# Altium schematic symbol library Semiconductors.SchLib: 25 symbols
Pins are listed as number, name and electrical type; pins without a type are passive.

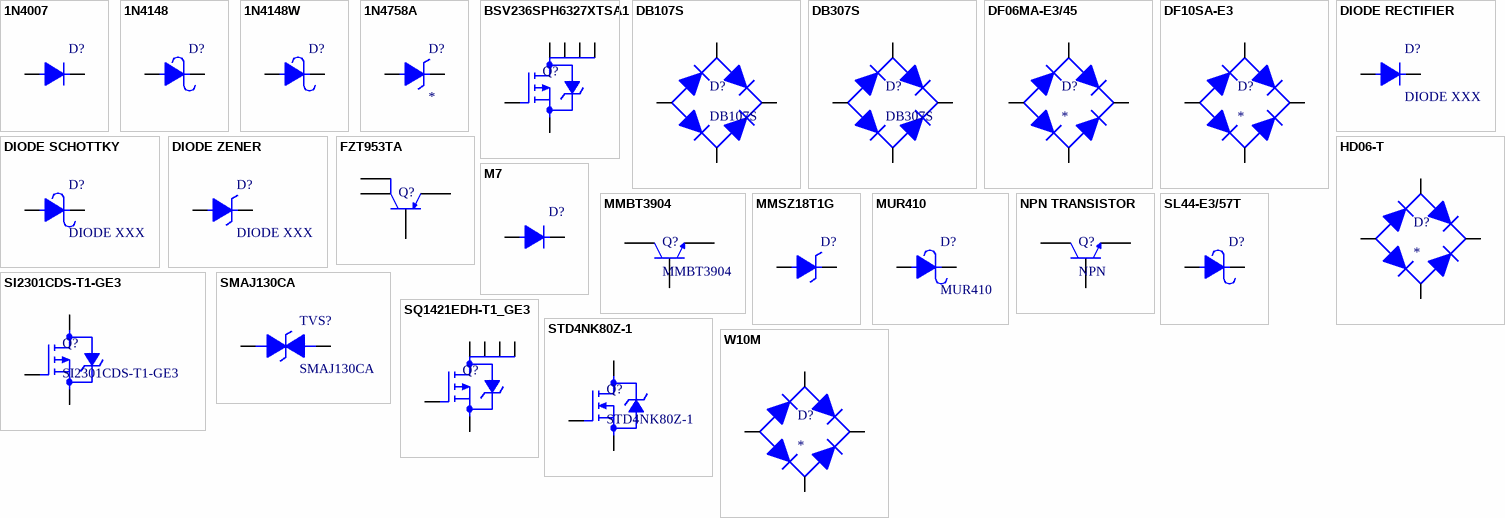
[diagram p0: symbols 1N4007 to W10M]

## 1N4007
designator D?
Diode Rectifier 1A 1kV; JLCPart: C2892673
footprint DO-214AC-SMA
pins: 1, 2

## 1N4148
designator D?
100V 500mW 1V@10mA 4ns 200mA DO-35  Switching Diode; JLCPart: C258182
footprint DO41
pins: 1, 2

## 1N4148W
designator D?
100V 500mW Single 1.25V@150mA 4ns 150mA SOD-123  Switching Diode; JLCPart: C2099
footprint SOD-123
pins: 1, 2

## 1N4758A
designator D?
Zener Diode 56 V 1 W ±5% Through Hole DO-41; JLCPart: C238936; Digikey_PN: 1N4758AFS-ND
footprint DO41
pins: 1, 2

## BSV236SPH6327XTSA1
designator Q?
P-Channel 20 V 1.5A (Ta) 560mW (Ta) Surface Mount SC-70-6; JLCPart: C3288824
footprint SQ1421EDH-T1_GE3
pins: 1 D, 2 D, 3 G, 4 S, 5 D, 6 D

## DB107S
designator D?
Bridge Rectifier Single Phase Standard 1000 V Surface Mount 4-MiniDIP; JLCPart: C5377
footprint DBS
pins: 1 AC+, 2 +, 3 AC-, 4 -

## DB307S
designator D?
80A 1.15V@3A 3A 1kV DBS  Bridge Rectifiers ROHS; JLCPart: C2898470
footprint DBS
pins: 1 AC+, 2 +, 3 AC-, 4 -

## DF06MA-E3/45
designator D?
Bridge Rectifier Single Phase Standard 600 V Through Hole DFM
footprint DF06MA-E3/45
pins: 1 AC+, 2 +, 3 AC-, 4 -

## DF10SA-E3
designator D?
Bridge Rectifier Single Phase Standard 1 kV Surface Mount DFS
footprint DFS
pins: 1 AC+, 2 +, 3 AC-, 4 -

## DIODE RECTIFIER
designator D?, comment DIODE XXX
Diode Rectifier
footprint DO41
footprint DO-214AC-SMA
footprint SOD-123
pins: 1, 2

## DIODE SCHOTTKY
designator D?, comment DIODE XXX
Diode Schottky
footprint DO41
footprint DO201-AD
footprint DO-214AB-SMC
footprint DO-214AC-SMA
pins: 1, 2

## DIODE ZENER
designator D?, comment DIODE XXX
Diode Zener
footprint DO40
footprint DO41
pins: 1, 2

## FZT953TA
designator Q?
Bipolar (BJT) Transistor PNP 100 V 5 A 120MHz 3 W Surface Mount SOT-223-3; Digikey_PN: FZT953CT-ND; JLCPart: C110507
footprint SOT223-DN
pins: B, C, C-TAB, E

## HD06-T
designator D?
Bridge Rectifier Single Phase Standard 600 V Surface Mount 4-MiniDIP
footprint HD06 - MiniDIP
pins: 1 AC+, 2 +, 3 AC-, 4 -

## M7
designator D?
Diode Rectifier 1A 1kV; JLCPart: C95872
footprint DO-214AC-SMA
pins: 1, 2

## MMBT3904
designator Q?
Bipolar (BJT) Transistor NPN 40 V 200 mA 300MHz 350 mW Surface Mount SOT-23; Digikey_PN: 5272-MMBT3904CT-ND; JLCPart: C20526
footprint VS-SOT-23
pins: 1 B, 2 E, 3 C

## MMSZ18T1G
designator D?
Diode Zener 18V
footprint SOD-123
pins: 1, 2

## MUR410
designator D?
Diode 100 V 4A Through Hole Axial
footprint DO41-EXT
pins: 1, 2

## NPN TRANSISTOR
designator Q?, comment NPN
NPN Transistor
footprint TO92
pins: 1 B, 2 C, 3 E

## SI2301CDS-T1-GE3
designator Q?
P-Channel 20 V 3.1A (Tc) 860mW (Ta), 1.6W (Tc) Surface Mount SOT-23-3 (TO-236); JLCPart: C10487
footprint VS-SOT-23
pins: 1 G, 2 S, 3 D

## SL44-E3/57T
designator D?
Diode 40 V 4A Surface Mount DO-214AB (SMC)
footprint DO-214AB-SMC
pins: 1, 2

## SMAJ130CA
designator TVS?
265V Clamp 9A (8/20µs) Ipp Tvs Diode Surface Mount SMA (DO-214AC)
footprint DO-214AC-SMA
pins: 1, 2

## SQ1421EDH-T1_GE3
designator Q?
P-Channel 60 V 1.6A (Tc) 3.3W (Tc) Surface Mount SC-70-6; JLCPart: C511495
footprint SQ1421EDH-T1_GE3
pins: 1 D, 2 D, 3 G, 4 S, 5 D, 6 D

## STD4NK80Z-1
designator Q?
N-Channel 800 V 3A (Tc) 80W (Tc) Through Hole TO-251 (IPAK)
footprint STD4NK80Z-1
pins: 1 G, 2 D, 3 S

## W10M
designator D?
footprint PUENTE - W10M
pins: 1 AC+, 2 +, 3 AC-, 4 -